# EAGLE library part SN74LVC2G00 (library quentin)
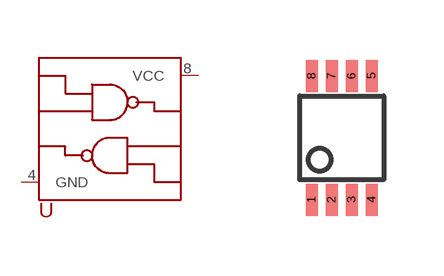
[diagram p25: symbol with the pads of S-PDSO-G8; footprint S-PDSO-G8]

Designator prefix -

## SN74LVC2G00  [S-PDSO-G8]
1  1A
2  1B
3  2Y
4  GND
5  2A
6  2B
7  1Y
8  VCC

## Footprint S-PDSO-G8 (pad centres in mm)
smd 0.3 x 0.8: 1 0,0; 2 0.5,0; 3 1,0; 4 1.5,0; 5 1.5,3.1; 6 1,3.1; 7 0.5,3.1; 8 0,3.1